# EAGLE library part CS5531/32 (library domonetic)
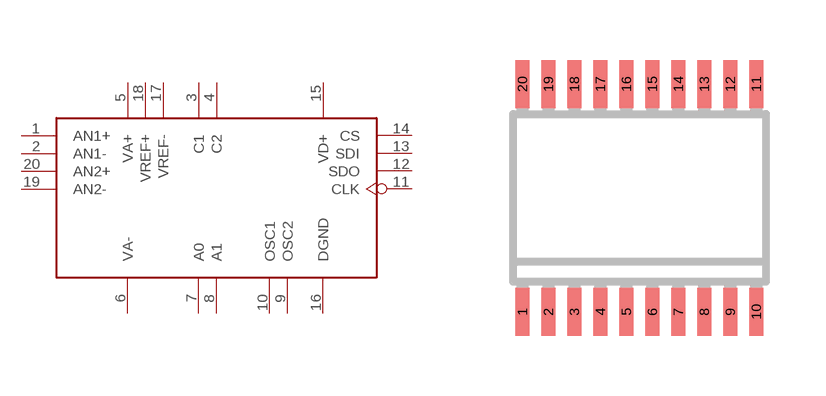
[diagram p6: symbol with the pads of SSOP20; footprint SSOP20]

Designator prefix -

## CS5531/32  [SSOP20]
1  AN1+  in
2  AN1-  in
3  C1  oc
4  C2  oc
5  VA+  pwr
6  VA-  pwr
7  A0  oc
8  A1  oc
9  OSC2  oc
10  OSC1  oc
11  CLK  in
12  SDO  out
13  SDI  in
14  CS  oc
15  VD+  pwr
16  DGND  oc
17  VREF-  pwr
18  VREF+  pwr
19  AN2-  in
20  AN2+  in

## Footprint SSOP20 (pad centres in mm)
plastic shrink small outline package 20 leads; body width 4.4 mm SOT266-1 Source: http://www.semiconductors.philips.com/acrobat_download/datasheets/PCF8574_4.pdf
smd 0.35 x 1.2: 1 -2.925,-2.85; 2 -2.275,-2.85; 3 -1.625,-2.85; 4 -0.975,-2.85; 5 -0.325,-2.85; 6 0.325,-2.85; 7 0.975,-2.85; 8 1.625,-2.85; 9 2.275,-2.85; 10 2.925,-2.85; 11 2.925,2.85; 12 2.275,2.85; 13 1.625,2.85; 14 0.975,2.85; 15 0.325,2.85; 16 -0.325,2.85; 17 -0.975,2.85; 18 -1.625,2.85; 19 -2.275,2.85; 20 -2.925,2.85